# EAGLE library part ICEWERX-PL3 (library apu-csk-motherboard)
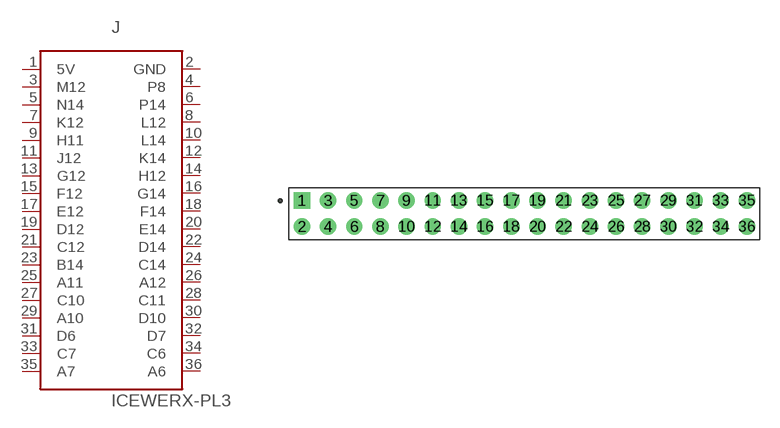
[diagram p9: symbol with the pads of TE_4-1734506-1; footprint TE_4-1734506-1]

Designator prefix J

## ICEWERX-PL3  [TE_4-1734506-1]
1  5V
2  GND
3  M12
4  P8
5  N14
6  P14
7  K12
8  L12
9  H11
10  L14
11  J12
12  K14
13  G12
14  H12
15  F12
16  G14
17  E12
18  F14
19  D12
20  E14
21  C12
22  D14
23  B14
24  C14
25  A11
26  A12
27  C10
28  C11
29  A10
30  D10
31  D6
32  D7
33  C7
34  C6
35  A7
36  A6

## Footprint TE_4-1734506-1 (pad centres in mm)
drill 0.75 pad 1.1 square: 1 0,0
drill 0.75 pad 1.1: 2 0,-2; 3 2.007,0; 4 2.007,-2; 5 4.013,0; 6 4.013,-2; 7 6.02,0; 8 6.02,-2; 9 8.026,0; 10 8.026,-2; 11 10.033,0; 12 10.033,-2; 13 12.04,0; 14 12.04,-2; 15 14.046,0; 16 14.046,-2; 17 16.053,0; 18 16.053,-2; 19 18.059,0; 20 18.059,-2; 21 20.066,0; 22 20.066,-2; 23 22.073,0; 24 22.073,-2; 25 24.079,0; 26 24.079,-2; 27 26.086,0; 28 26.086,-2; 29 28.092,0; 30 28.092,-2; 31 30.099,0; 32 30.099,-2; 33 32.106,0; 34 32.106,-2; 35 34.112,0; 36 34.112,-2